# EAGLE library part CY8C25122-24* (library cypress_micro)
The CY8C25xxx/26xxx family of Programmable System-on-Chip (PSoC) microcontrollers offers a fast core, Flash program memory and SRAM data memory with configurable analog and digital peripheral blocks in a range of convinient pinouts and memory size on one single chip.
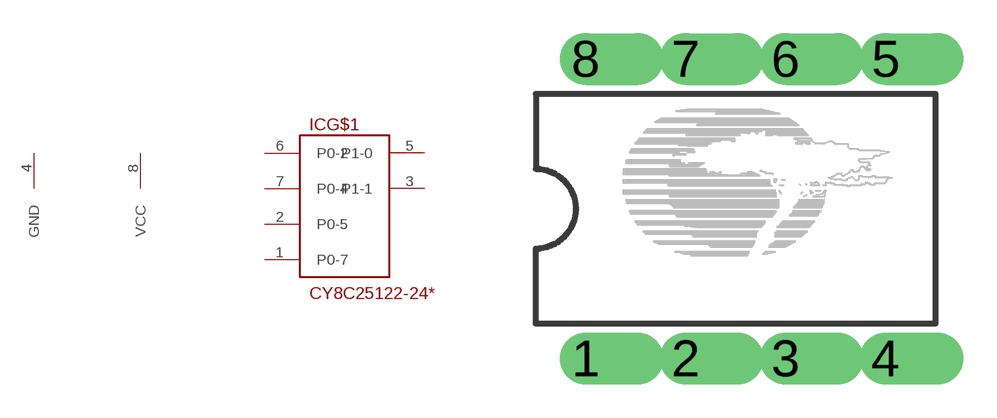
[diagram p0: symbol with the pads of PDIP08; footprint PDIP08]

Designator prefix IC; gates G$1=CY8C25122 G$2=GND G$3=VCC

## CY8C25122-24PI  [PDIP08]
1  G$1:P0-7
2  G$1:P0-5
3  G$1:P1-1
4  G$2:GND  pwr
5  G$1:P1-0
6  G$1:P0-2
7  G$1:P0-4
8  G$3:VCC  pwr

## Footprint PDIP08 (pad centres in mm)
Plastic Dual Inline Package with 8 pins
drill 0.813 offset: 1 -3.81,-3.81; 2 -1.27,-3.81; 3 1.27,-3.81; 4 3.81,-3.81; 5 3.81,3.81; 6 1.27,3.81; 7 -1.27,3.81; 8 -3.81,3.81